# EAGLE library part PMIC_RK809 (library !GPLIB_ACTIVE)
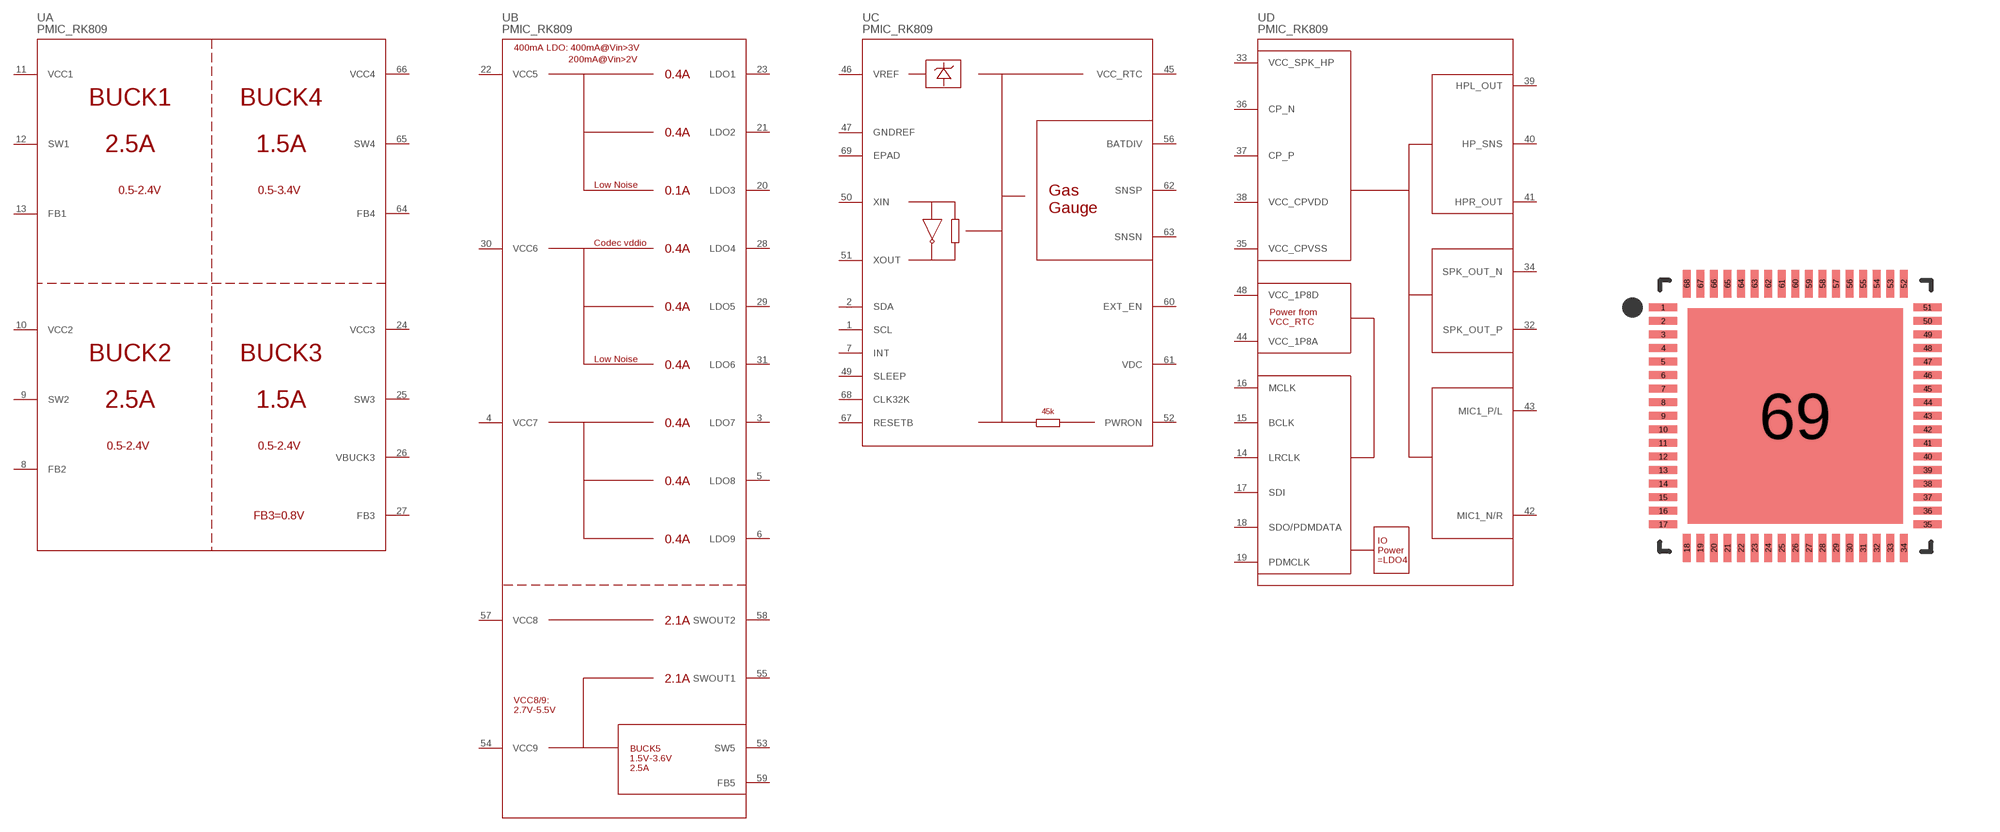
[diagram p127: symbol with the pads of QFN35P700X700X90-69N; footprint QFN35P700X700X90-69N]

Designator prefix U; gates A=RK809-5-A B=RK809-5-B C=RK809-5-C D=RK809-5-D

## PMIC_RK809_RK809-5  [QFN35P700X700X90-69N]
1  C:SCL
2  C:SDA
3  B:LDO7
4  B:VCC7
5  B:LDO8
6  B:LDO9
7  C:INT
8  A:FB2
9  A:SW2
10  A:VCC2
11  A:VCC1
12  A:SW1
13  A:FB1
14  D:LRCLK
15  D:BCLK
16  D:MCLK
17  D:SDI
18  D:SDO/PDMDATA
19  D:PDMCLK
20  B:LDO3
21  B:LDO2
22  B:VCC5
23  B:LDO1
24  A:VCC3
25  A:SW3
26  A:VBUCK3
27  A:FB3
28  B:LDO4
29  B:LDO5
30  B:VCC6
31  B:LDO6
32  D:SPK_OUT_P
33  D:VCC_SPK_HP
34  D:SPK_OUT_N
35  D:VCC_CPVSS
36  D:CP_N
37  D:CP_P
38  D:VCC_CPVDD
39  D:HPL_OUT
40  D:HP_SNS
41  D:HPR_OUT
42  D:MIC1_N/R
43  D:MIC1_P/L
44  D:VCC_1P8A
45  C:VCC_RTC
46  C:VREF
47  C:GNDREF
48  D:VCC_1P8D
49  C:SLEEP
50  C:XIN
51  C:XOUT
52  C:PWRON
53  B:SW5
54  B:VCC9
55  B:SWOUT1
56  C:BATDIV
57  B:VCC8
58  B:SWOUT2
59  B:FB5
60  C:EXT_EN
61  C:VDC
62  C:SNSP
63  C:SNSN
64  A:FB4
65  A:SW4
66  A:VCC4
67  C:RESETB
68  C:CLK32K
69  C:EPAD

## Footprint QFN35P700X700X90-69N (pad centres in mm)
smd 0.723 x 0.196: 1 -3.411,2.8; 2 -3.411,2.45; 3 -3.411,2.1; 4 -3.411,1.75; 5 -3.411,1.4; 6 -3.411,1.05; 7 -3.411,0.7; 8 -3.411,0.35; 9 -3.411,0; 10 -3.411,-0.35; 11 -3.411,-0.7; 12 -3.411,-1.05; 13 -3.411,-1.4; 14 -3.411,-1.75; 15 -3.411,-2.1; 16 -3.411,-2.45; 17 -3.411,-2.8; 35 3.411,-2.8; 36 3.411,-2.45; 37 3.411,-2.1; 38 3.411,-1.75; 39 3.411,-1.4; 40 3.411,-1.05; 41 3.411,-0.7; 42 3.411,-0.35; 43 3.411,0; 44 3.411,0.35; 45 3.411,0.7; 46 3.411,1.05; 47 3.411,1.4; 48 3.411,1.75; 49 3.411,2.1; 50 3.411,2.45; 51 3.411,2.8
smd 0.196 x 0.723: 18 -2.8,-3.411; 19 -2.45,-3.411; 20 -2.1,-3.411; 21 -1.75,-3.411; 22 -1.4,-3.411; 23 -1.05,-3.411; 24 -0.7,-3.411; 25 -0.35,-3.411; 26 0,-3.411; 27 0.35,-3.411; 28 0.7,-3.411; 29 1.05,-3.411; 30 1.4,-3.411; 31 1.75,-3.411; 32 2.1,-3.411; 33 2.45,-3.411; 34 2.8,-3.411; 52 2.8,3.411; 53 2.45,3.411; 54 2.1,3.411; 55 1.75,3.411; 56 1.4,3.411; 57 1.05,3.411; 58 0.7,3.411; 59 0.35,3.411; 60 0,3.411; 61 -0.35,3.411; 62 -0.7,3.411; 63 -1.05,3.411; 64 -1.4,3.411; 65 -1.75,3.411; 66 -2.1,3.411; 67 -2.45,3.411; 68 -2.8,3.411
smd 5.56 x 5.56: 69 0,0